# Altium footprint library USB_4PIN.PcbLib: 1 footprints
Each footprint in its own frame and in the unit in brackets; x right, y up, seen from the top. Pads: shape width x height; smd on the part's side, far side on the other; paste and mask are expansions set on the pad; w line width, h text height; cw(c..) or ccw(c..) is an arc to the next point about the centre after c.
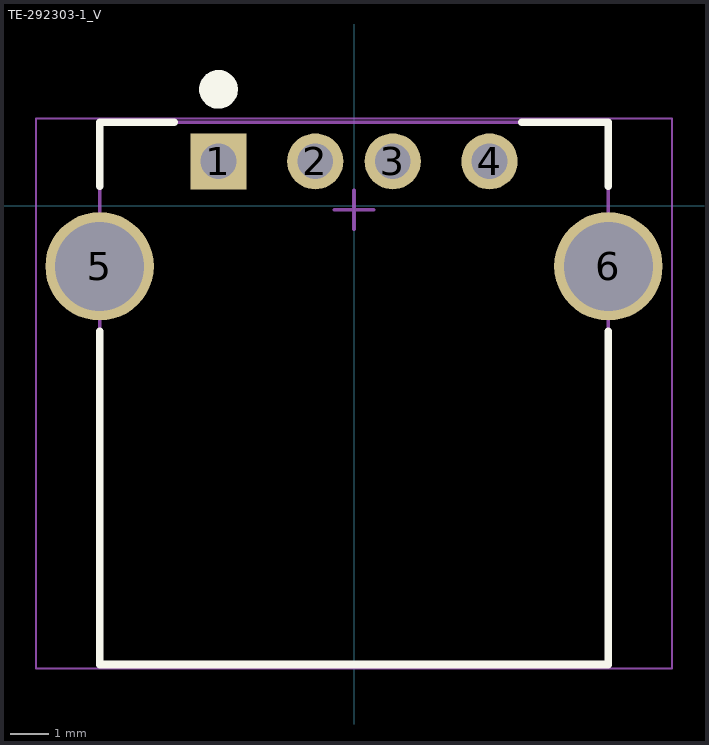
[diagram p0: the footprint, top view; thin cyan lines are the x and y axes]

## TE-292303-1_V [mm] "THD, 4-Leads, Body 13.13x14mm, Pitch 2.5mm"
height 7.01
pads (6):
  rect 1.45x1.45 hole 0.92: 1(-3.5,1.144)
  round 1.45 hole 0.92: 2(-1,1.144) 3(1,1.144) 4(3.5,1.144)
  round 2.8 hole 2.3: 5(-6.57,-1.566) 6(6.57,-1.566)
Top Overlay:
  circle w0.5: c-3.5,3.004 r0.25
  lines w0.2: -6.565,-3.25 -6.565,-11.846 6.565,-11.846 6.565,-3.25 ; -6.565,0.5 -6.565,2.154 -4.65,2.154 ; 4.33,2.154 6.565,2.154 6.565,0.5
Mechanical 13:
  lines w0.1: -6.565,-11.846 -6.565,2.154 6.565,2.154 6.565,-11.846 -6.565,-11.846
Mechanical 15:
  lines w0.05: -8.216,-11.946 8.216,-11.946 8.216,2.254 -8.216,2.254 -8.216,-11.946
  lines w0.1: -0.5,-0.105 0.5,-0.105 ; 0,-0.605 0,0.395
3D body "c-292303-1-e3-3d.stp": height 7.72, standoff -3.54, extent -8.116,-11.846 8.116,2.154